# Altium footprint library PcbLib2.PcbLib: 2 footprints
Each footprint in its own frame and in the unit in brackets; x right, y up, seen from the top. Pads: shape width x height; smd on the part's side, far side on the other; paste and mask are expansions set on the pad; w line width, h text height; cw(c..) or ccw(c..) is an arc to the next point about the centre after c.
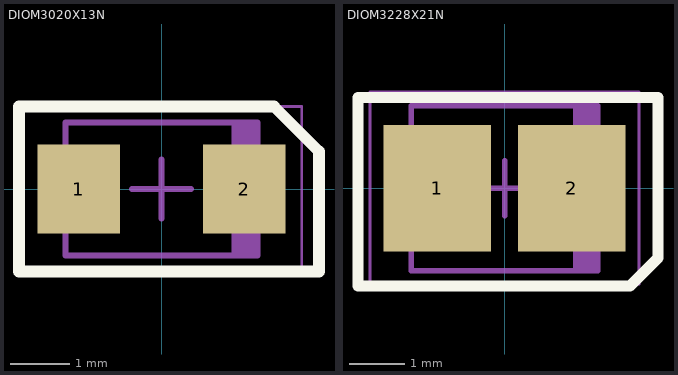
[diagram p0: the footprints below, top view; thin cyan lines are the x and y axes]

## DIOM3020X13N [mm] "Molded Diode, 2-Leads, Body 3.00x2.00mm, IPC Medium Density"
height 1.3
pads (2):
  rect 1.4x1.5 smd: 1(-1.4,0) 2(1.4,0)
Top Overlay:
  lines w0.2: -2.413,-1.397 -2.413,1.397 -1.649,1.397 1.651,1.397 1.905,1.397 2.667,0.635 2.667,-1.397 1.651,-1.397 -1.649,-1.397 -2.413,-1.397
Mechanical 13:
  rectangle: 1.188,-1.125 1.625,1.125
  lines w0.1: -1.625,-1.125 -1.625,1.125 1.625,1.125 1.625,-1.125 -1.625,-1.125
Mechanical 15:
  lines w0.05: -2.375,-1.4 -2.375,1.4 2.375,1.4 2.375,-1.4 -2.375,-1.4
  lines w0.1: -0.5,0 0.5,0 ; 0,-0.5 0,0.5
3D body "DIOM3020X13N.step": height 1.3, standoff 0, extent -1.845,-1.125 1.845,1.125

## DIOM3228X21N [mm] "Molded Diode, 2-Leads, Body 3.20x2.80mm, IPC Medium Density"
height 2.1
pads (2):
  rect 1.95x2.3 smd: 1(-1.225,0) 2(1.225,0)
Top Overlay:
  lines w0.2: -2.667,-1.778 -2.667,1.651 -1.851,1.651 1.851,1.651 2.794,1.651 2.794,-1.27 2.286,-1.778 -0.733,-1.778 -2.667,-1.778
Mechanical 13:
  rectangle: 1.243,-1.5 1.7,1.5
  lines w0.1: -1.7,-1.5 -1.7,1.5 1.7,1.5 1.7,-1.5 -1.7,-1.5
Mechanical 15:
  lines w0.05: -2.45,-1.75 -2.45,1.75 2.45,1.75 2.45,0.875 2.45,-0.875 2.45,-1.75 -2.45,-1.75
  lines w0.1: -0.5,0 0.5,0 ; 0,-0.5 0,0.5
3D body "User Library-KAA-3528.STEP": height 1.9, standoff 0, extent -1.75,-1.4 1.75,1.4